# Altium integrated library Molex Modular Jack Right Angle.IntLib: 395 symbols (part 3 of 9)
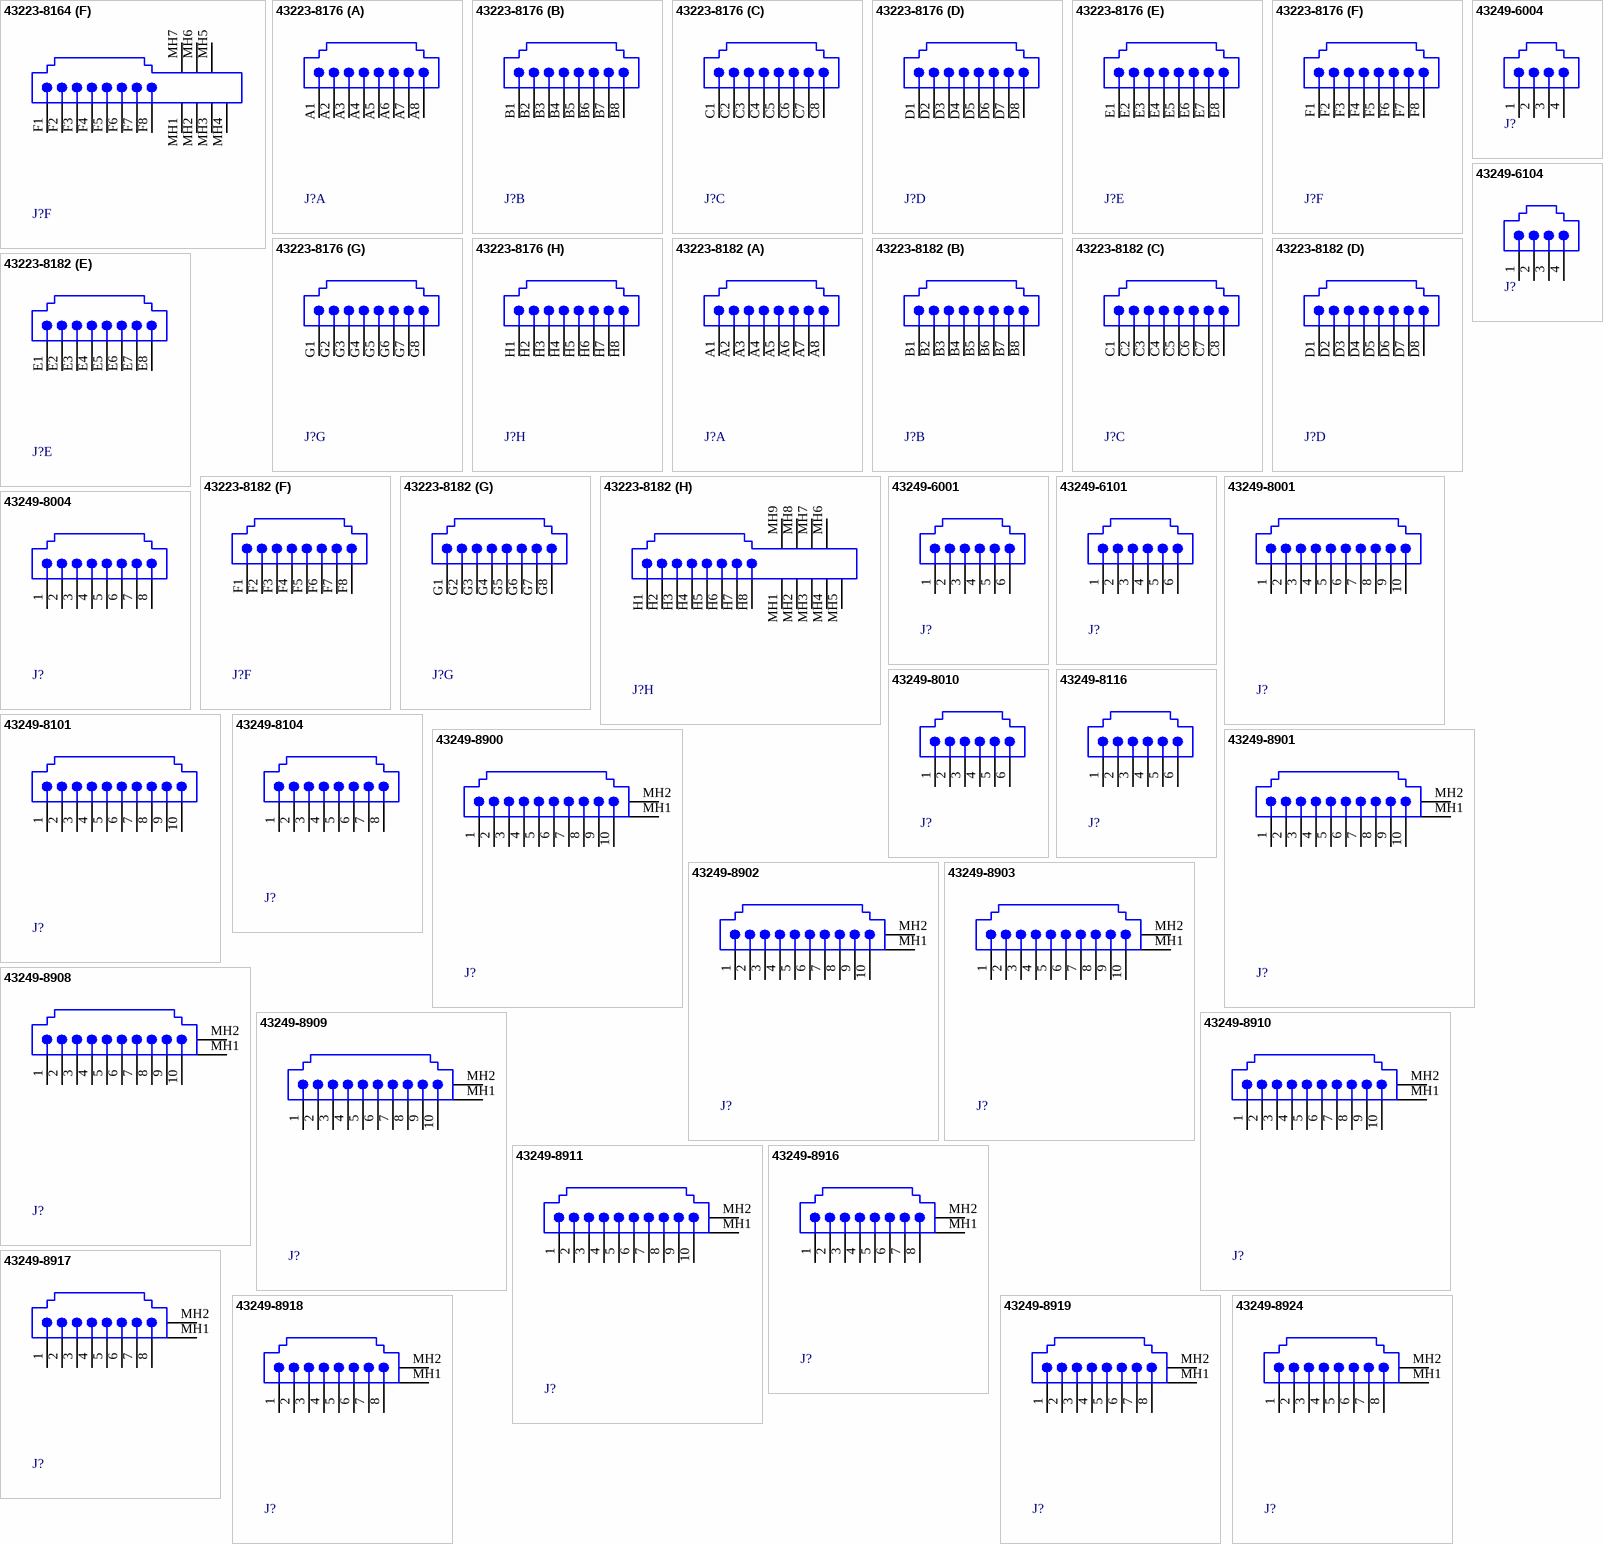
[diagram p26: symbols 43223-8164 to 43249-8924]

## 43249-6001
designator J?
Right Angle, Low Profile, Flush Mount, Unshielded PCB Jack; Ports: 1; Positions/Loaded: Port1 - 6/6; PerformanceCategory: 3/4; PCB_Mounting: Thru-Hole; DrillSize: Nominal, Rounded to nearest 0.05mm; PCB_Layout: Complies with Manufacturer's Recommendation.; Published: 25-Jun-2002; DatasheetDocument: 18-Dec-2001; PackageDocument: 18-Dec-2001; PackageReference: 43249-6001; Publisher: Altium Limited; ComponentLink1Description: Manufacturer Link; ComponentLink1URL: http://www.molex.com/; ComponentLink2Description: Datasheet; ComponentLink2URL: http://www.molex.com/cmc_upload/common_files/1212003_43249catalogpage.pdf
footprint 43249-6001 (Connector; PCB Jack, Thru-Hole; 1-Port, 6 Positions, 6 Loaded; Unshielded without Lightpipes; Right Angle)
signal-integrity model Modular Jack
pins: 1, 2, 3, 4, 5, 6

## 43249-6004
designator J?
Right Angle, Low Profile, Flush Mount, Unshielded PCB Jack; Ports: 1; Positions/Loaded: Port1 - 6/4; PerformanceCategory: 3/4; PCB_Mounting: Thru-Hole; DrillSize: Nominal, Rounded to nearest 0.05mm; PCB_Layout: Complies with Manufacturer's Recommendation.; Published: 25-Jun-2002; DatasheetDocument: 18-Dec-2001; PackageDocument: 18-Dec-2001; PackageReference: 43249-6004; Publisher: Altium Limited; ComponentLink1Description: Manufacturer Link; ComponentLink1URL: http://www.molex.com/; ComponentLink2Description: Datasheet; ComponentLink2URL: http://www.molex.com/cmc_upload/common_files/1212003_43249catalogpage.pdf
footprint 43249-6004 (Connector; PCB Jack, Thru-Hole; 1-Port, 6 Positions, 4 Loaded; Unshielded without Lightpipes; Right Angle)
signal-integrity model Modular Jack
pins: 1, 2, 3, 4

## 43249-6101
designator J?
Right Angle, Low Profile, Flangeless, Unshielded PCB Jack; Ports: 1; Positions/Loaded: Port1 - 6/6; PerformanceCategory: 3/4; PCB_Mounting: Thru-Hole; DrillSize: Nominal, Rounded to nearest 0.05mm; PCB_Layout: Complies with Manufacturer's Recommendation.; Published: 25-Jun-2002; DatasheetDocument: 18-Dec-2001; PackageDocument: 18-Dec-2001; PackageReference: 43249-6101; Publisher: Altium Limited; ComponentLink1Description: Manufacturer Link; ComponentLink1URL: http://www.molex.com/; ComponentLink2Description: Datasheet; ComponentLink2URL: http://www.molex.com/cmc_upload/common_files/1212003_43249catalogpage.pdf
footprint 43249-6101 (Connector; PCB Jack, Thru-Hole; 1-Port, 6 Positions, 6 Loaded; Unshielded without Lightpipes; Right Angle)
signal-integrity model Modular Jack
pins: 1, 2, 3, 4, 5, 6

## 43249-6104
designator J?
Right Angle, Low Profile, Flangeless, Unshielded PCB Jack; Ports: 1; Positions/Loaded: Port1 - 6/4; PerformanceCategory: 3/4; PCB_Mounting: Thru-Hole; DrillSize: Nominal, Rounded to nearest 0.05mm; PCB_Layout: Complies with Manufacturer's Recommendation.; Published: 25-Jun-2002; DatasheetDocument: 18-Dec-2001; PackageDocument: 18-Dec-2001; PackageReference: 43249-6104; Publisher: Altium Limited; ComponentLink1Description: Manufacturer Link; ComponentLink1URL: http://www.molex.com/; ComponentLink2Description: Datasheet; ComponentLink2URL: http://www.molex.com/cmc_upload/common_files/1212003_43249catalogpage.pdf
footprint 43249-6104 (Connector; PCB Jack, Thru-Hole; 1-Port, 6 Positions, 4 Loaded; Unshielded without Lightpipes; Right Angle)
signal-integrity model Modular Jack
pins: 1, 2, 3, 4

## 43249-8001
designator J?
Right Angle, Low Profile, Flush Mount, Unshielded PCB Jack; Ports: 1; Positions/Loaded: Port1 - 8/10; PerformanceCategory: 3/4; PCB_Mounting: Thru-Hole; DrillSize: Nominal, Rounded to nearest 0.05mm; PCB_Layout: Complies with Manufacturer's Recommendation.; Published: 25-Jun-2002; DatasheetDocument: 18-Dec-2001; PackageDocument: 18-Dec-2001; PackageReference: 43249-8001; Publisher: Altium Limited; ComponentLink1Description: Manufacturer Link; ComponentLink1URL: http://www.molex.com/; ComponentLink2Description: Datasheet; ComponentLink2URL: http://www.molex.com/cmc_upload/common_files/1212003_43249catalogpage.pdf
footprint 43249-8001 (Connector; PCB Jack, Thru-Hole; 1-Port, 8 Positions, 10 Loaded; Shielded without Lightpipes; Right Angle)
signal-integrity model Modular Jack
pins: 1, 2, 3, 4, 5, 6, 7, 8, 9, 10

## 43249-8004
designator J?
Right Angle, Low Profile, Flush Mount, Unshielded PCB Jack; Ports: 1; Positions/Loaded: Port1 - 8/8; PerformanceCategory: 3/4; PCB_Mounting: Thru-Hole; DrillSize: Nominal, Rounded to nearest 0.05mm; PCB_Layout: Complies with Manufacturer's Recommendation.; Published: 25-Jun-2002; DatasheetDocument: 18-Dec-2001; PackageDocument: 18-Dec-2001; PackageReference: 43249-8004; Publisher: Altium Limited; ComponentLink1Description: Manufacturer Link; ComponentLink1URL: http://www.molex.com/; ComponentLink2Description: Datasheet; ComponentLink2URL: http://www.molex.com/cmc_upload/common_files/1212003_43249catalogpage.pdf
footprint 43249-8004 (Connector; PCB Jack, Thru-Hole; 1-Port, 8 Positions, 8 Loaded; Unshielded without Lightpipes; Right Angle)
signal-integrity model Modular Jack
pins: 1, 2, 3, 4, 5, 6, 7, 8

## 43249-8010
designator J?
Right Angle, Low Profile, Flush Mount, Unshielded PCB Jack; Ports: 1; Positions/Loaded: Port1 - 8/6; PerformanceCategory: 3/4; PCB_Mounting: Thru-Hole; DrillSize: Nominal, Rounded to nearest 0.05mm; PCB_Layout: Complies with Manufacturer's Recommendation.; Published: 25-Jun-2002; DatasheetDocument: 18-Dec-2001; PackageDocument: 18-Dec-2001; PackageReference: 43249-8010; Publisher: Altium Limited; ComponentLink1Description: Manufacturer Link; ComponentLink1URL: http://www.molex.com/; ComponentLink2Description: Datasheet; ComponentLink2URL: http://www.molex.com/cmc_upload/common_files/1212003_43249catalogpage.pdf
footprint 43249-8010 (Connector; PCB Jack, Thru-Hole; 1-Port, 8 Positions, 6 Loaded; Unshielded without Lightpipes; Right Angle)
signal-integrity model Modular Jack
pins: 1, 2, 3, 4, 5, 6

## 43249-8101
designator J?
Right Angle, Low Profile, Flangeless, Unshielded PCB Jack; Ports: 1; Positions/Loaded: Port1 - 8/10; PerformanceCategory: 3/4; PCB_Mounting: Thru-Hole; DrillSize: Nominal, Rounded to nearest 0.05mm; PCB_Layout: Complies with Manufacturer's Recommendation.; Published: 25-Jun-2002; DatasheetDocument: 18-Dec-2001; PackageDocument: 18-Dec-2001; PackageReference: 43249-8101; Publisher: Altium Limited; ComponentLink1Description: Manufacturer Link; ComponentLink1URL: http://www.molex.com/; ComponentLink2Description: Datasheet; ComponentLink2URL: http://www.molex.com/cmc_upload/common_files/1212003_43249catalogpage.pdf
footprint 43249-8101 (Connector; PCB Jack, Thru-Hole; 1-Port, 8 Positions, 10 Loaded; Shielded without Lightpipes; Right Angle)
signal-integrity model Modular Jack
pins: 1, 2, 3, 4, 5, 6, 7, 8, 9, 10

## 43249-8104
designator J?
Right Angle, Low Profile, Flangeless, Unshielded PCB Jack; Ports: 1; Positions/Loaded: Port1 - 8/8; PerformanceCategory: 3/4; PCB_Mounting: Thru-Hole; DrillSize: Nominal, Rounded to nearest 0.05mm; PCB_Layout: Complies with Manufacturer's Recommendation.; Published: 25-Jun-2002; DatasheetDocument: 18-Dec-2001; PackageDocument: 18-Dec-2001; PackageReference: 43249-8104; Publisher: Altium Limited; ComponentLink1Description: Manufacturer Link; ComponentLink1URL: http://www.molex.com/; ComponentLink2Description: Datasheet; ComponentLink2URL: http://www.molex.com/cmc_upload/common_files/1212003_43249catalogpage.pdf
footprint 43249-8104 (Connector; PCB Jack, Thru-Hole; 1-Port, 8 Positions, 8 Loaded; Unshielded without Lightpipes; Right Angle)
signal-integrity model Modular Jack
pins: 1, 2, 3, 4, 5, 6, 7, 8

## 43249-8116
designator J?
Right Angle, Low Profile, Flangeless, Unshielded PCB Jack; Ports: 1; Positions/Loaded: Port1 - 8/6; PerformanceCategory: 3/4; PCB_Mounting: Thru-Hole; DrillSize: Nominal, Rounded to nearest 0.05mm; PCB_Layout: Complies with Manufacturer's Recommendation.; Published: 25-Jun-2002; DatasheetDocument: 18-Dec-2001; PackageDocument: 18-Dec-2001; PackageReference: 43249-8116; Publisher: Altium Limited; ComponentLink1Description: Manufacturer Link; ComponentLink1URL: http://www.molex.com/; ComponentLink2Description: Datasheet; ComponentLink2URL: http://www.molex.com/cmc_upload/common_files/1212003_43249catalogpage.pdf
footprint 43249-8116 (Connector; PCB Jack, Thru-Hole; 1-Port, 8 Positions, 6 Loaded; Unshielded without Lightpipes; Right Angle)
signal-integrity model Modular Jack
pins: 1, 2, 3, 4, 5, 6

## 43249-8900
designator J?
Right Angle, Low Profile, with no Panel Grounding Tabs, Shielded PCB Jack; Ports: 1; Positions/Loaded: Port1 - 8/10; PerformanceCategory: 3/4; PCB_Mounting: Thru-Hole; DrillSize: Nominal, Rounded to nearest 0.05mm; PCB_Layout: Complies with Manufacturer's Recommendation.; Published: 25-Jun-2002; DatasheetDocument: 18-Dec-2001; PackageDocument: 18-Dec-2001; PackageReference: 43249-8900; Publisher: Altium Limited; ComponentLink1Description: Manufacturer Link; ComponentLink1URL: http://www.molex.com/; ComponentLink2Description: Datasheet; ComponentLink2URL: http://www.molex.com/cmc_upload/common_files/1212003_43249catalogpage.pdf
footprint 43249-8900 (Connector; PCB Jack, Thru-Hole; 1-Port, 8 Positions, 10 Loaded; Shielded without Lightpipes; Right Angle)
signal-integrity model Modular Jack
pins: 1, 2, 3, 4, 5, 6, 7, 8, 9, 10, MH1 Shield, MH2 Shield

## 43249-8901
designator J?
Right Angle, Low Profile, with top Panel Grounding Tabs, Shielded PCB Jack; Ports: 1; Positions/Loaded: Port1 - 8/10; PerformanceCategory: 3/4; PCB_Mounting: Thru-Hole; DrillSize: Nominal, Rounded to nearest 0.05mm; PCB_Layout: Complies with Manufacturer's Recommendation.; Published: 25-Jun-2002; DatasheetDocument: 18-Dec-2001; PackageDocument: 18-Dec-2001; PackageReference: 43249-8901; Publisher: Altium Limited; ComponentLink1Description: Manufacturer Link; ComponentLink1URL: http://www.molex.com/; ComponentLink2Description: Datasheet; ComponentLink2URL: http://www.molex.com/cmc_upload/common_files/1212003_43249catalogpage.pdf
footprint 43249-8901 (Connector; PCB Jack, Thru-Hole; 1-Port, 8 Positions, 10 Loaded; Shielded without Lightpipes; Right Angle)
signal-integrity model Modular Jack
pins: 1, 2, 3, 4, 5, 6, 7, 8, 9, 10, MH1 Shield, MH2 Shield

## 43249-8902
designator J?
Right Angle, Low Profile, with offset Panel Grounding Tabs, Shielded PCB Jack; Ports: 1; Positions/Loaded: Port1 - 8/10; PerformanceCategory: 3/4; PCB_Mounting: Thru-Hole; DrillSize: Nominal, Rounded to nearest 0.05mm; PCB_Layout: Complies with Manufacturer's Recommendation.; Published: 25-Jun-2002; DatasheetDocument: 18-Dec-2001; PackageDocument: 18-Dec-2001; PackageReference: 43249-8902; Publisher: Altium Limited; ComponentLink1Description: Manufacturer Link; ComponentLink1URL: http://www.molex.com/; ComponentLink2Description: Datasheet; ComponentLink2URL: http://www.molex.com/cmc_upload/common_files/1212003_43249catalogpage.pdf
footprint 43249-8902 (Connector; PCB Jack, Thru-Hole; 1-Port, 8 Positions, 10 Loaded; Shielded without Lightpipes; Right Angle)
signal-integrity model Modular Jack
pins: 1, 2, 3, 4, 5, 6, 7, 8, 9, 10, MH1 Shield, MH2 Shield

## 43249-8903
designator J?
Right Angle, Low Profile, with all Panel Grounding Tabs, Shielded PCB Jack; Ports: 1; Positions/Loaded: Port1 - 8/10; PerformanceCategory: 3/4; PCB_Mounting: Thru-Hole; DrillSize: Nominal, Rounded to nearest 0.05mm; PCB_Layout: Complies with Manufacturer's Recommendation.; Published: 25-Jun-2002; DatasheetDocument: 18-Dec-2001; PackageDocument: 18-Dec-2001; PackageReference: 43249-8903; Publisher: Altium Limited; ComponentLink1Description: Manufacturer Link; ComponentLink1URL: http://www.molex.com/; ComponentLink2Description: Datasheet; ComponentLink2URL: http://www.molex.com/cmc_upload/common_files/1212003_43249catalogpage.pdf
footprint 43249-8903 (Connector; PCB Jack, Thru-Hole; 1-Port, 8 Positions, 10 Loaded; Shielded without Lightpipes; Right Angle)
signal-integrity model Modular Jack
pins: 1, 2, 3, 4, 5, 6, 7, 8, 9, 10, MH1 Shield, MH2 Shield

## 43249-8908
designator J?
Right Angle, Low Profile, with no Panel Grounding Tabs, Shielded PCB Jack; Ports: 1; Positions/Loaded: Port1 - 8/10; PerformanceCategory: 3/4; PCB_Mounting: Thru-Hole; DrillSize: Nominal, Rounded to nearest 0.05mm; PCB_Layout: Complies with Manufacturer's Recommendation.; Published: 25-Jun-2002; DatasheetDocument: 18-Dec-2001; PackageDocument: 18-Dec-2001; PackageReference: 43249-8908; Publisher: Altium Limited; ComponentLink1Description: Manufacturer Link; ComponentLink1URL: http://www.molex.com/; ComponentLink2Description: Datasheet; ComponentLink2URL: http://www.molex.com/cmc_upload/common_files/1212003_43249catalogpage.pdf
footprint 43249-8908 (Connector; PCB Jack, Thru-Hole; 1-Port, 8 Positions, 10 Loaded; Shielded without Lightpipes; Right Angle)
signal-integrity model Modular Jack
pins: 1, 2, 3, 4, 5, 6, 7, 8, 9, 10, MH1 Shield, MH2 Shield

## 43249-8909
designator J?
Right Angle, Low Profile, with top Panel Grounding Tabs, Shielded PCB Jack; Ports: 1; Positions/Loaded: Port1 - 8/10; PerformanceCategory: 3/4; PCB_Mounting: Thru-Hole; DrillSize: Nominal, Rounded to nearest 0.05mm; PCB_Layout: Complies with Manufacturer's Recommendation.; Published: 25-Jun-2002; DatasheetDocument: 18-Dec-2001; PackageDocument: 18-Dec-2001; PackageReference: 43249-8909; Publisher: Altium Limited; ComponentLink1Description: Manufacturer Link; ComponentLink1URL: http://www.molex.com/; ComponentLink2Description: Datasheet; ComponentLink2URL: http://www.molex.com/cmc_upload/common_files/1212003_43249catalogpage.pdf
footprint 43249-8909 (Connector; PCB Jack, Thru-Hole; 1-Port, 8 Positions, 10 Loaded; Shielded without Lightpipes; Right Angle)
signal-integrity model Modular Jack
pins: 1, 2, 3, 4, 5, 6, 7, 8, 9, 10, MH1 Shield, MH2 Shield

## 43249-8910
designator J?
Right Angle, Low Profile, with offset Panel Grounding Tabs, Shielded PCB Jack; Ports: 1; Positions/Loaded: Port1 - 8/10; PerformanceCategory: 3/4; PCB_Mounting: Thru-Hole; DrillSize: Nominal, Rounded to nearest 0.05mm; PCB_Layout: Complies with Manufacturer's Recommendation.; Published: 25-Jun-2002; DatasheetDocument: 18-Dec-2001; PackageDocument: 18-Dec-2001; PackageReference: 43249-8910; Publisher: Altium Limited; ComponentLink1Description: Manufacturer Link; ComponentLink1URL: http://www.molex.com/; ComponentLink2Description: Datasheet; ComponentLink2URL: http://www.molex.com/cmc_upload/common_files/1212003_43249catalogpage.pdf
footprint 43249-8910 (Connector; PCB Jack, Thru-Hole; 1-Port, 8 Positions, 10 Loaded; Shielded without Lightpipes; Right Angle)
signal-integrity model Modular Jack
pins: 1, 2, 3, 4, 5, 6, 7, 8, 9, 10, MH1 Shield, MH2 Shield

## 43249-8911
designator J?
Right Angle, Low Profile, with all Panel Grounding Tabs, Shielded PCB Jack; Ports: 1; Positions/Loaded: Port1 - 8/10; PerformanceCategory: 3/4; PCB_Mounting: Thru-Hole; DrillSize: Nominal, Rounded to nearest 0.05mm; PCB_Layout: Complies with Manufacturer's Recommendation.; Published: 25-Jun-2002; DatasheetDocument: 18-Dec-2001; PackageDocument: 18-Dec-2001; PackageReference: 43249-8911; Publisher: Altium Limited; ComponentLink1Description: Manufacturer Link; ComponentLink1URL: http://www.molex.com/; ComponentLink2Description: Datasheet; ComponentLink2URL: http://www.molex.com/cmc_upload/common_files/1212003_43249catalogpage.pdf
footprint 43249-8911 (Connector; PCB Jack, Thru-Hole; 1-Port, 8 Positions, 10 Loaded; Shielded without Lightpipes; Right Angle)
signal-integrity model Modular Jack
pins: 1, 2, 3, 4, 5, 6, 7, 8, 9, 10, MH1 Shield, MH2 Shield

## 43249-8916
designator J?
Right Angle, Low Profile, with no Panel Grounding Tabs, Shielded PCB Jack; Ports: 1; Positions/Loaded: Port1 - 8/8; PerformanceCategory: 3/4; PCB_Mounting: Thru-Hole; DrillSize: Nominal, Rounded to nearest 0.05mm; PCB_Layout: Complies with Manufacturer's Recommendation.; Published: 25-Jun-2002; DatasheetDocument: 18-Dec-2001; PackageDocument: 18-Dec-2001; PackageReference: 43249-8916; Publisher: Altium Limited; ComponentLink1Description: Manufacturer Link; ComponentLink1URL: http://www.molex.com/; ComponentLink2Description: Datasheet; ComponentLink2URL: http://www.molex.com/cmc_upload/common_files/1212003_43249catalogpage.pdf
footprint 43249-8916 (Connector; PCB Jack, Thru-Hole; 1-Port, 8 Positions, 8 Loaded; Shielded without Lightpipes; Right Angle)
signal-integrity model Modular Jack
pins: 1, 2, 3, 4, 5, 6, 7, 8, MH1 Shield, MH2 Shield

## 43249-8917
designator J?
Right Angle, Low Profile, with top Panel Grounding Tabs, Shielded PCB Jack; Ports: 1; Positions/Loaded: Port1 - 8/8; PerformanceCategory: 3/4; PCB_Mounting: Thru-Hole; DrillSize: Nominal, Rounded to nearest 0.05mm; PCB_Layout: Complies with Manufacturer's Recommendation.; Published: 25-Jun-2002; DatasheetDocument: 18-Dec-2001; PackageDocument: 18-Dec-2001; PackageReference: 43249-8917; Publisher: Altium Limited; ComponentLink1Description: Manufacturer Link; ComponentLink1URL: http://www.molex.com/; ComponentLink2Description: Datasheet; ComponentLink2URL: http://www.molex.com/cmc_upload/common_files/1212003_43249catalogpage.pdf
footprint 43249-8917 (Connector; PCB Jack, Thru-Hole; 1-Port, 8 Positions, 8 Loaded; Shielded without Lightpipes; Right Angle)
signal-integrity model Modular Jack
pins: 1, 2, 3, 4, 5, 6, 7, 8, MH1 Shield, MH2 Shield

## 43249-8918
designator J?
Right Angle, Low Profile, with offset Panel Grounding Tabs, Shielded PCB Jack; Ports: 1; Positions/Loaded: Port1 - 8/8; PerformanceCategory: 3/4; PCB_Mounting: Thru-Hole; DrillSize: Nominal, Rounded to nearest 0.05mm; PCB_Layout: Complies with Manufacturer's Recommendation.; Published: 25-Jun-2002; DatasheetDocument: 18-Dec-2001; PackageDocument: 18-Dec-2001; PackageReference: 43249-8918; Publisher: Altium Limited; ComponentLink1Description: Manufacturer Link; ComponentLink1URL: http://www.molex.com/; ComponentLink2Description: Datasheet; ComponentLink2URL: http://www.molex.com/cmc_upload/common_files/1212003_43249catalogpage.pdf
footprint 43249-8918 (Connector; PCB Jack, Thru-Hole; 1-Port, 8 Positions, 8 Loaded; Shielded without Lightpipes; Right Angle)
signal-integrity model Modular Jack
pins: 1, 2, 3, 4, 5, 6, 7, 8, MH1 Shield, MH2 Shield

## 43249-8919
designator J?
Right Angle, Low Profile, with all Panel Grounding Tabs, Shielded PCB Jack; Ports: 1; Positions/Loaded: Port1 - 8/8; PerformanceCategory: 3/4; PCB_Mounting: Thru-Hole; DrillSize: Nominal, Rounded to nearest 0.05mm; PCB_Layout: Complies with Manufacturer's Recommendation.; Published: 25-Jun-2002; DatasheetDocument: 18-Dec-2001; PackageDocument: 18-Dec-2001; PackageReference: 43249-8919; Publisher: Altium Limited; ComponentLink1Description: Manufacturer Link; ComponentLink1URL: http://www.molex.com/; ComponentLink2Description: Datasheet; ComponentLink2URL: http://www.molex.com/cmc_upload/common_files/1212003_43249catalogpage.pdf
footprint 43249-8919 (Connector; PCB Jack, Thru-Hole; 1-Port, 8 Positions, 8 Loaded; Shielded without Lightpipes; Right Angle)
signal-integrity model Modular Jack
pins: 1, 2, 3, 4, 5, 6, 7, 8, MH1 Shield, MH2 Shield

## 43249-8924
designator J?
Right Angle, Low Profile, with no Panel Grounding Tabs, Shielded PCB Jack; Ports: 1; Positions/Loaded: Port1 - 8/8; PerformanceCategory: 3/4; PCB_Mounting: Thru-Hole; DrillSize: Nominal, Rounded to nearest 0.05mm; PCB_Layout: Complies with Manufacturer's Recommendation.; Published: 25-Jun-2002; DatasheetDocument: 18-Dec-2001; PackageDocument: 18-Dec-2001; PackageReference: 43249-8924; Publisher: Altium Limited; ComponentLink1Description: Manufacturer Link; ComponentLink1URL: http://www.molex.com/; ComponentLink2Description: Datasheet; ComponentLink2URL: http://www.molex.com/cmc_upload/common_files/1212003_43249catalogpage.pdf
footprint 43249-8924 (Connector; PCB Jack, Thru-Hole; 1-Port, 8 Positions, 8 Loaded; Shielded without Lightpipes; Right Angle)
signal-integrity model Modular Jack
pins: 1, 2, 3, 4, 5, 6, 7, 8, MH1 Shield, MH2 Shield

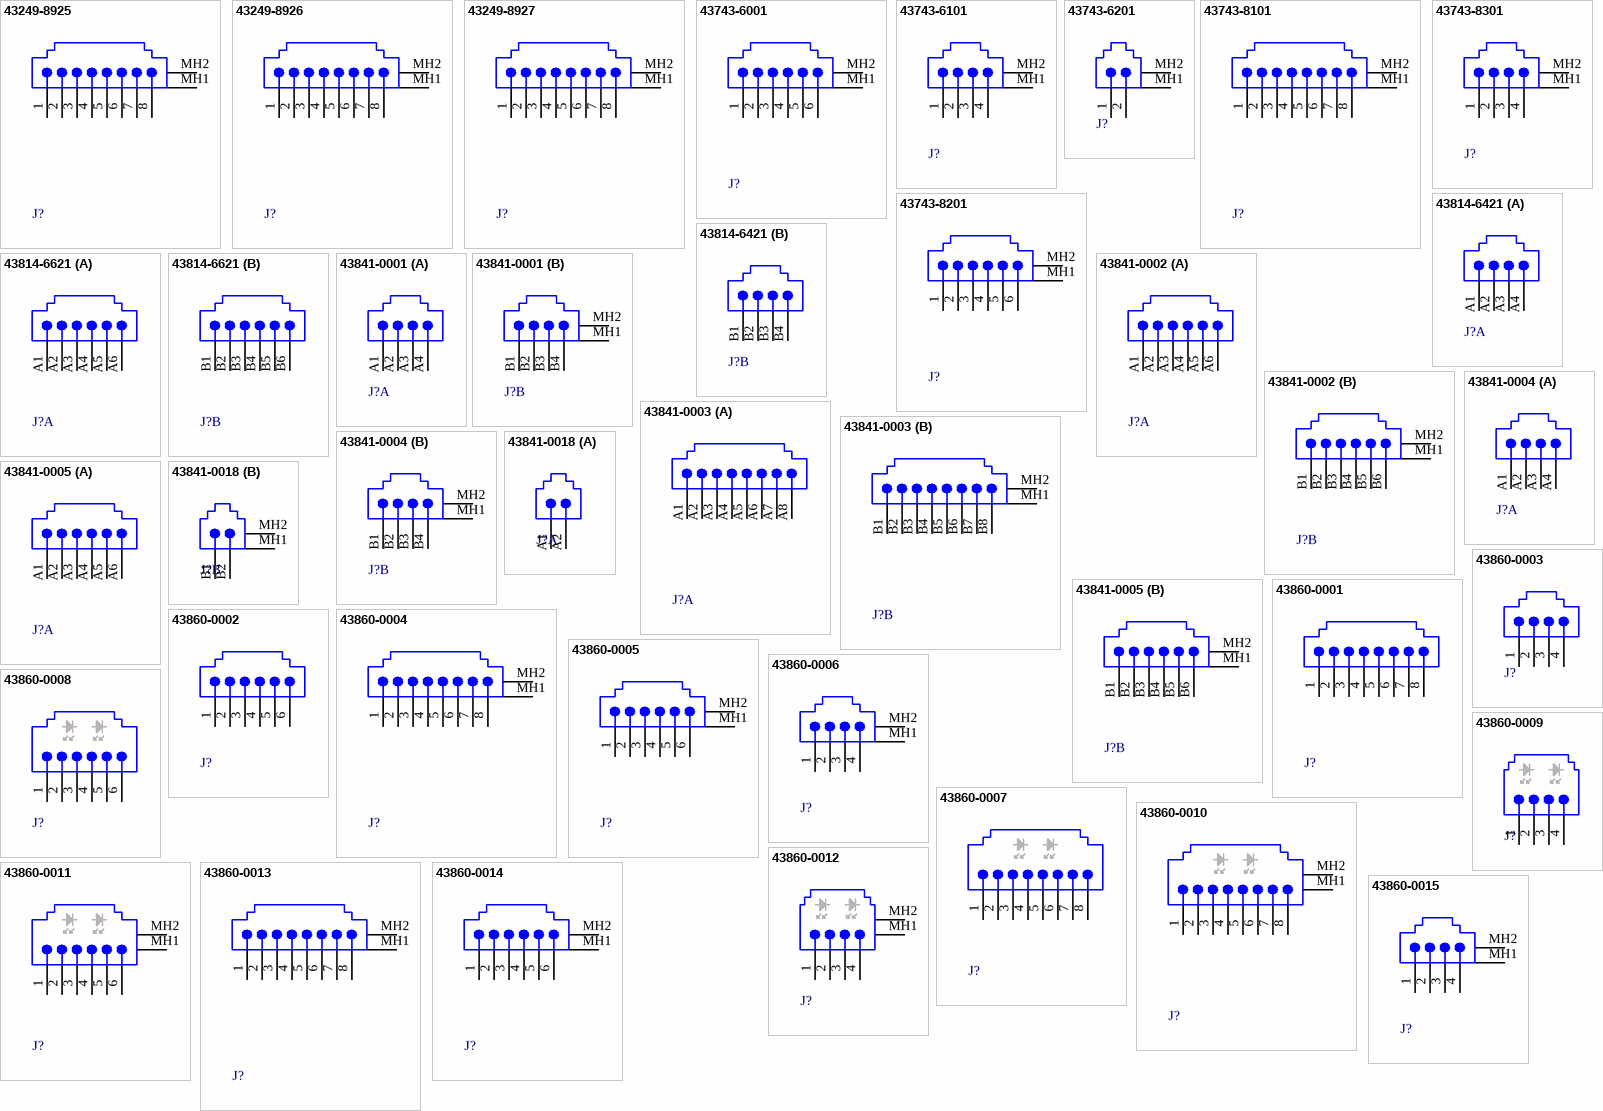
[diagram p6: symbols 43249-8925 to 43860-0015]

## 43249-8925
designator J?
Right Angle, Low Profile, with top Panel Grounding Tabs, Shielded PCB Jack; Ports: 1; Positions/Loaded: Port1 - 8/8; PerformanceCategory: 3/4; PCB_Mounting: Thru-Hole; DrillSize: Nominal, Rounded to nearest 0.05mm; PCB_Layout: Complies with Manufacturer's Recommendation.; Published: 25-Jun-2002; DatasheetDocument: 18-Dec-2001; PackageDocument: 18-Dec-2001; PackageReference: 43249-8925; Publisher: Altium Limited; ComponentLink1Description: Manufacturer Link; ComponentLink1URL: http://www.molex.com/; ComponentLink2Description: Datasheet; ComponentLink2URL: http://www.molex.com/cmc_upload/common_files/1212003_43249catalogpage.pdf
footprint 43249-8925 (Connector; PCB Jack, Thru-Hole; 1-Port, 8 Positions, 8 Loaded; Shielded without Lightpipes; Right Angle)
signal-integrity model Modular Jack
pins: 1, 2, 3, 4, 5, 6, 7, 8, MH1 Shield, MH2 Shield

## 43249-8926
designator J?
Right Angle, Low Profile, with offset Panel Grounding Tabs, Shielded PCB Jack; Ports: 1; Positions/Loaded: Port1 - 8/8; PerformanceCategory: 3/4; PCB_Mounting: Thru-Hole; DrillSize: Nominal, Rounded to nearest 0.05mm; PCB_Layout: Complies with Manufacturer's Recommendation.; Published: 25-Jun-2002; DatasheetDocument: 18-Dec-2001; PackageDocument: 18-Dec-2001; PackageReference: 43249-8926; Publisher: Altium Limited; ComponentLink1Description: Manufacturer Link; ComponentLink1URL: http://www.molex.com/; ComponentLink2Description: Datasheet; ComponentLink2URL: http://www.molex.com/cmc_upload/common_files/1212003_43249catalogpage.pdf
footprint 43249-8926 (Connector; PCB Jack, Thru-Hole; 1-Port, 8 Positions, 8 Loaded; Shielded without Lightpipes; Right Angle)
signal-integrity model Modular Jack
pins: 1, 2, 3, 4, 5, 6, 7, 8, MH1 Shield, MH2 Shield

## 43249-8927
designator J?
Right Angle, Low Profile, with all Panel Grounding Tabs, Shielded PCB Jack; Ports: 1; Positions/Loaded: Port1 - 8/8; PerformanceCategory: 3/4; PCB_Mounting: Thru-Hole; DrillSize: Nominal, Rounded to nearest 0.05mm; PCB_Layout: Complies with Manufacturer's Recommendation.; Published: 25-Jun-2002; DatasheetDocument: 18-Dec-2001; PackageDocument: 18-Dec-2001; PackageReference: 43249-8927; Publisher: Altium Limited; ComponentLink1Description: Manufacturer Link; ComponentLink1URL: http://www.molex.com/; ComponentLink2Description: Datasheet; ComponentLink2URL: http://www.molex.com/cmc_upload/common_files/1212003_43249catalogpage.pdf
footprint 43249-8927 (Connector; PCB Jack, Thru-Hole; 1-Port, 8 Positions, 8 Loaded; Shielded without Lightpipes; Right Angle)
signal-integrity model Modular Jack
pins: 1, 2, 3, 4, 5, 6, 7, 8, MH1 Shield, MH2 Shield

## 43743-6001
designator J?
SMT, Right Angle, Low Profile, with Outboard Fitting Nails PCB Jack; Ports: 1; Positions/Loaded: Port1 - 6/6; PerformanceCategory: 3; DrillSize: Nominal, Rounded to nearest 0.05mm; PCB_Layout: Complies with Manufacturer's Recommendation.; Published: 25-Jun-2002; DatasheetDocument: 19-Dec-2001; PackageDocument: 19-Dec-2001; PackageReference: 43743-6001; Publisher: Altium Limited; PCB_Mounting: SMT; ComponentLink1Description: Manufacturer Link; ComponentLink1URL: http://www.molex.com/; ComponentLink2Description: Datasheet; ComponentLink2URL: http://www.molex.com/cmc_upload/common_files/1222003_43743catalogpage.pdf
footprint 43743-6001 (Connector; PCB Jack, SM; 1-Port, 6 Positions, 6 Loaded; Unshielded without Lightpipes; Right Angle)
signal-integrity model Modular Jack
pins: 1, 2, 3, 4, 5, 6, MH1 Shield, MH2 Shield

## 43743-6101
designator J?
SMT, Right Angle, Low Profile, with Outboard Fitting Nails PCB Jack; Ports: 1; Positions/Loaded: Port1 - 6/4; PerformanceCategory: 3; DrillSize: Nominal, Rounded to nearest 0.05mm; PCB_Layout: Complies with Manufacturer's Recommendation.; Published: 25-Jun-2002; DatasheetDocument: 19-Dec-2001; PackageDocument: 19-Dec-2001; PackageReference: 43743-6101; Publisher: Altium Limited; PCB_Mounting: SMT; ComponentLink1Description: Manufacturer Link; ComponentLink1URL: http://www.molex.com/; ComponentLink2Description: Datasheet; ComponentLink2URL: http://www.molex.com/cmc_upload/common_files/1222003_43743catalogpage.pdf
footprint 43743-6101 (Connector; PCB Jack, SM; 1-Port, 6 Positions, 4 Loaded; Unshielded without Lightpipes; Right Angle)
signal-integrity model Modular Jack
pins: 1, 2, 3, 4, MH1 Shield, MH2 Shield

## 43743-6201
designator J?
SMT, Right Angle, Low Profile, with Outboard Fitting Nails PCB Jack; Ports: 1; Positions/Loaded: Port1 - 6/2; PerformanceCategory: 3; DrillSize: Nominal, Rounded to nearest 0.05mm; PCB_Layout: Complies with Manufacturer's Recommendation.; Published: 25-Jun-2002; DatasheetDocument: 19-Dec-2001; PackageDocument: 19-Dec-2001; PackageReference: 43743-6201; Publisher: Altium Limited; PCB_Mounting: SMT; ComponentLink1Description: Manufacturer Link; ComponentLink1URL: http://www.molex.com/; ComponentLink2Description: Datasheet; ComponentLink2URL: http://www.molex.com/cmc_upload/common_files/1222003_43743catalogpage.pdf
footprint 43743-6201 (Connector; PCB Jack, SM; 1-Port, 6 Positions, 2 Loaded; Unshielded without Lightpipes; Right Angle)
signal-integrity model Modular Jack
pins: 1, 2, MH1 Shield, MH2 Shield

## 43743-8101
designator J?
SMT, Right Angle, Low Profile, with Outboard Fitting Nails PCB Jack; Ports: 1; Positions/Loaded: Port1 - 8/8; PerformanceCategory: 3; DrillSize: Nominal, Rounded to nearest 0.05mm; PCB_Layout: Complies with Manufacturer's Recommendation.; Published: 25-Jun-2002; DatasheetDocument: 19-Dec-2001; PackageDocument: 19-Dec-2001; PackageReference: 43743-8101; Publisher: Altium Limited; PCB_Mounting: SMT; ComponentLink1Description: Manufacturer Link; ComponentLink1URL: http://www.molex.com/; ComponentLink2Description: Datasheet; ComponentLink2URL: http://www.molex.com/cmc_upload/common_files/1222003_43743catalogpage.pdf
footprint 43743-8101 (Connector; PCB Jack, SM; 1-Port, 8 Positions, 8 Loaded; Unshielded without Lightpipes; Right Angle)
signal-integrity model Modular Jack
pins: 1, 2, 3, 4, 5, 6, 7, 8, MH1 Shield, MH2 Shield

## 43743-8201
designator J?
SMT, Right Angle, Low Profile, with Outboard Fitting Nails PCB Jack; Ports: 1; Positions/Loaded: Port1 - 8/6; PerformanceCategory: 3; DrillSize: Nominal, Rounded to nearest 0.05mm; PCB_Layout: Complies with Manufacturer's Recommendation.; Published: 25-Jun-2002; DatasheetDocument: 19-Dec-2001; PackageDocument: 19-Dec-2001; PackageReference: 43743-8201; Publisher: Altium Limited; PCB_Mounting: SMT; ComponentLink1Description: Manufacturer Link; ComponentLink1URL: http://www.molex.com/; ComponentLink2Description: Datasheet; ComponentLink2URL: http://www.molex.com/cmc_upload/common_files/1222003_43743catalogpage.pdf
footprint 43743-8201 (Connector; PCB Jack, SM; 1-Port, 8 Positions, 6 Loaded; Unshielded without Lightpipes; Right Angle)
signal-integrity model Modular Jack
pins: 1, 2, 3, 4, 5, 6, MH1 Shield, MH2 Shield

## 43743-8301
designator J?
SMT, Right Angle, Low Profile, with Outboard Fitting Nails PCB Jack; Ports: 1; Positions/Loaded: Port1 - 8/4; PerformanceCategory: 3; DrillSize: Nominal, Rounded to nearest 0.05mm; PCB_Layout: Complies with Manufacturer's Recommendation.; Published: 25-Jun-2002; DatasheetDocument: 19-Dec-2001; PackageDocument: 19-Dec-2001; PackageReference: 43743-8301; Publisher: Altium Limited; PCB_Mounting: SMT; ComponentLink1Description: Manufacturer Link; ComponentLink1URL: http://www.molex.com/; ComponentLink2Description: Datasheet; ComponentLink2URL: http://www.molex.com/cmc_upload/common_files/1222003_43743catalogpage.pdf
footprint 43743-8301 (Connector; PCB Jack, SM; 1-Port, 8 Positions, 4 Loaded; Unshielded without Lightpipes; Right Angle)
signal-integrity model Modular Jack
pins: 1, 2, 3, 4, MH1 Shield, MH2 Shield

## 43814-6421
designator J?
Right Angle, Low Profile, Inverted, Dual Port PCB Jack; Ports: 2; Positions/Loaded: All Ports - 6/4; PerformanceCategory: 3; PCB_Mounting: Thru-Hole; DrillSize: Nominal, Rounded to nearest 0.05mm; PCB_Layout: Complies with Manufacturer's Recommendation.; Published: 25-Jun-2002; DatasheetDocument: 18-Dec-2001; PackageDocument: 18-Dec-2001; PackageReference: 43814-6421; Publisher: Altium Limited; ComponentLink1Description: Manufacturer Link; ComponentLink1URL: http://www.molex.com/; ComponentLink2Description: Datasheet; ComponentLink2URL: http://www.molex.com/cmc_upload/common_files/1222003_43814catalogpage.pdf
footprint 43814-6421 (Connector; PCB Jack, Thru-Hole; 2-Port, 6 Positions, 4 Loaded; Unshielded without Lightpipes; Right Angle)
signal-integrity model Modular Jack
part A pins: A1, A2, A3, A4
part B pins: B1, B2, B3, B4

## 43814-6621
designator J?
Right Angle, Low Profile, Inverted, Dual Port PCB Jack; Ports: 2; Positions/Loaded: All Ports - 6/6; PerformanceCategory: 3; PCB_Mounting: Thru-Hole; DrillSize: Nominal, Rounded to nearest 0.05mm; PCB_Layout: Complies with Manufacturer's Recommendation.; Published: 25-Jun-2002; DatasheetDocument: 18-Dec-2001; PackageDocument: 18-Dec-2001; PackageReference: 43814-6621; Publisher: Altium Limited; ComponentLink1Description: Manufacturer Link; ComponentLink1URL: http://www.molex.com/; ComponentLink2Description: Datasheet; ComponentLink2URL: http://www.molex.com/cmc_upload/common_files/1222003_43814catalogpage.pdf
footprint 43814-6621 (Connector; PCB Jack, Thru-Hole; 2-Port, 6 Positions, 6 Loaded; Unshielded without Lightpipes; Right Angle)
signal-integrity model Modular Jack
part A pins: A1, A2, A3, A4, A5, A6
part B pins: B1, B2, B3, B4, B5, B6

## 43841-0001
designator J?
SMT, Right Angle, Low Profile, Dual Port Modular Jack with Outboard Fitting Nails; Ports: 2; Positions/Loaded: All Ports - 8/4; PerformanceCategory: 3/4; DrillSize: Nominal, Rounded to nearest 0.05mm; PCB_Layout: Complies with Manufacturer's Recommendation.; Published: 25-Jun-2002; DatasheetDocument: 19-Dec-2001; PackageDocument: 19-Dec-2001; PackageReference: 43841-0001; Publisher: Altium Limited; PCB_Mounting: SMT; ComponentLink1Description: Manufacturer Link; ComponentLink1URL: http://www.molex.com/; ComponentLink2Description: Datasheet; ComponentLink2URL: http://www.molex.com/cmc_upload/common_files/1222003_mx43841.pdf
footprint 43841-0001 (Connector; PCB Jack, SM; 2-Port, 8 Positions, 4 Loaded; Unshielded without Lightpipes; Right Angle)
signal-integrity model Modular Jack
part A pins: A1, A2, A3, A4
part B pins: B1, B2, B3, B4, MH1 Shield, MH2 Shield

## 43841-0002
designator J?
SMT, Right Angle, Low Profile, Dual Port Modular Jack with Outboard Fitting Nails; Ports: 2; Positions/Loaded: All Ports - 8/6; PerformanceCategory: 3/4; DrillSize: Nominal, Rounded to nearest 0.05mm; PCB_Layout: Complies with Manufacturer's Recommendation.; Published: 25-Jun-2002; DatasheetDocument: 19-Dec-2001; PackageDocument: 19-Dec-2001; PackageReference: 43841-0002; Publisher: Altium Limited; PCB_Mounting: SMT; ComponentLink1Description: Manufacturer Link; ComponentLink1URL: http://www.molex.com/; ComponentLink2Description: Datasheet; ComponentLink2URL: http://www.molex.com/cmc_upload/common_files/1222003_mx43841.pdf
footprint 43841-0002 (Connector; PCB Jack, SM; 2-Port, 8 Positions, 6 Loaded; Unshielded without Lightpipes; Right Angle)
signal-integrity model Modular Jack
part A pins: A1, A2, A3, A4, A5, A6
part B pins: B1, B2, B3, B4, B5, B6, MH1 Shield, MH2 Shield

## 43841-0003
designator J?
SMT, Right Angle, Low Profile, Dual Port Modular Jack with Outboard Fitting Nails; Ports: 2; Positions/Loaded: All Ports - 8/8; PerformanceCategory: 3/4; DrillSize: Nominal, Rounded to nearest 0.05mm; PCB_Layout: Complies with Manufacturer's Recommendation.; Published: 25-Jun-2002; DatasheetDocument: 19-Dec-2001; PackageDocument: 19-Dec-2001; PackageReference: 43841-0003; Publisher: Altium Limited; PCB_Mounting: SMT; ComponentLink1Description: Manufacturer Link; ComponentLink1URL: http://www.molex.com/; ComponentLink2Description: Datasheet; ComponentLink2URL: http://www.molex.com/cmc_upload/common_files/1222003_mx43841.pdf
footprint 43841-0003 (Connector; PCB Jack, SM; 2-Port, 8 Positions, 8 Loaded; Unshielded without Lightpipes; Right Angle)
signal-integrity model Modular Jack
part A pins: A1, A2, A3, A4, A5, A6, A7, A8
part B pins: B1, B2, B3, B4, B5, B6, B7, B8, MH1 Shield, MH2 Shield

## 43841-0004
designator J?
SMT, Right Angle, Low Profile, Dual Port Modular Jack with Outboard Fitting Nails; Ports: 2; Positions/Loaded: All Ports - 6/4; PerformanceCategory: 3/4; DrillSize: Nominal, Rounded to nearest 0.05mm; PCB_Layout: Complies with Manufacturer's Recommendation.; Published: 25-Jun-2002; DatasheetDocument: 19-Dec-2001; PackageDocument: 19-Dec-2001; PackageReference: 43841-0004; Publisher: Altium Limited; PCB_Mounting: SMT; ComponentLink1Description: Manufacturer Link; ComponentLink1URL: http://www.molex.com/; ComponentLink2Description: Datasheet; ComponentLink2URL: http://www.molex.com/cmc_upload/common_files/1222003_mx43841.pdf
footprint 43841-0004 (Connector; PCB Jack, SM; 2-Port, 6 Positions, 4 Loaded; Unshielded without Lightpipes; Right Angle)
signal-integrity model Modular Jack
part A pins: A1, A2, A3, A4
part B pins: B1, B2, B3, B4, MH1 Shield, MH2 Shield

## 43841-0005
designator J?
SMT, Right Angle, Low Profile, Dual Port Modular Jack with Outboard Fitting Nails; Ports: 2; Positions/Loaded: All Ports - 6/6; PerformanceCategory: 3/4; DrillSize: Nominal, Rounded to nearest 0.05mm; PCB_Layout: Complies with Manufacturer's Recommendation.; Published: 25-Jun-2002; DatasheetDocument: 19-Dec-2001; PackageDocument: 19-Dec-2001; PackageReference: 43841-0005; Publisher: Altium Limited; PCB_Mounting: SMT; ComponentLink1Description: Manufacturer Link; ComponentLink1URL: http://www.molex.com/; ComponentLink2Description: Datasheet; ComponentLink2URL: http://www.molex.com/cmc_upload/common_files/1222003_mx43841.pdf
footprint 43841-0005 (Connector; PCB Jack, SM; 2-Port, 6 Positions, 6 Loaded; Unshielded without Lightpipes; Right Angle)
signal-integrity model Modular Jack
part A pins: A1, A2, A3, A4, A5, A6
part B pins: B1, B2, B3, B4, B5, B6, MH1 Shield, MH2 Shield

## 43841-0018
designator J?
SMT, Right Angle, Low Profile, Dual Port Modular Jack with Outboard Fitting Nails; Ports: 2; Positions/Loaded: All Ports - 6/2; PerformanceCategory: 3/4; DrillSize: Nominal, Rounded to nearest 0.05mm; PCB_Layout: Complies with Manufacturer's Recommendation.; Published: 25-Jun-2002; DatasheetDocument: 19-Dec-2001; PackageDocument: 19-Dec-2001; PackageReference: 43841-0018; Publisher: Altium Limited; PCB_Mounting: SMT; ComponentLink1Description: Manufacturer Link; ComponentLink1URL: http://www.molex.com/; ComponentLink2Description: Datasheet; ComponentLink2URL: http://www.molex.com/cmc_upload/common_files/1222003_mx43841.pdf
footprint 43841-0018 (Connector; PCB Jack, SM; 2-Port, 6 Positions, 2 Loaded; Unshielded without Lightpipes; Right Angle)
signal-integrity model Modular Jack
part A pins: A1, A2
part B pins: B1, B2, MH1 Shield, MH2 Shield

## 43860-0001
designator J?
Right Angle, Low Profile, Inverted, Unshielded PCB Jack; Ports: 1; Positions/Loaded: Port1 - 8/8; PerformanceCategory: 3; PCB_Mounting: Thru-Hole; DrillSize: Nominal, Rounded to nearest 0.05mm; PCB_Layout: Complies with Manufacturer's Recommendation.; Published: 25-Jun-2002; DatasheetDocument: 18-Dec-2001; PackageDocument: 18-Dec-2001; PackageReference: 43860-0001; Publisher: Altium Limited; ComponentLink1Description: Manufacturer Link; ComponentLink1URL: http://www.molex.com/; ComponentLink2Description: Datasheet; ComponentLink2URL: http://www.molex.com/cmc_upload/common_files/1222003_mx43860a.pdf
footprint 43860-0001 (Connector; PCB Jack, Thru-Hole; 1-Port, 8 Positions, 8 Loaded; Unshielded without Lightpipes; Right Angle)
signal-integrity model Modular Jack
pins: 1, 2, 3, 4, 5, 6, 7, 8

## 43860-0002
designator J?
Right Angle, Low Profile, Inverted, Unshielded PCB Jack; Ports: 1; Positions/Loaded: Port1 - 6/6; PerformanceCategory: 3; PCB_Mounting: Thru-Hole; DrillSize: Nominal, Rounded to nearest 0.05mm; PCB_Layout: Complies with Manufacturer's Recommendation.; Published: 25-Jun-2002; DatasheetDocument: 18-Dec-2001; PackageDocument: 18-Dec-2001; PackageReference: 43860-0002; Publisher: Altium Limited; ComponentLink1Description: Manufacturer Link; ComponentLink1URL: http://www.molex.com/; ComponentLink2Description: Datasheet; ComponentLink2URL: http://www.molex.com/cmc_upload/common_files/1222003_mx43860a.pdf
footprint 43860-0002 (Connector; PCB Jack, Thru-Hole; 1-Port, 6 Positions, 6 Loaded; Unshielded without Lightpipes; Right Angle)
signal-integrity model Modular Jack
pins: 1, 2, 3, 4, 5, 6

## 43860-0003
designator J?
Right Angle, Low Profile, Inverted, Unshielded PCB Jack; Ports: 1; Positions/Loaded: Port1 - 6/4; PerformanceCategory: 3; PCB_Mounting: Thru-Hole; DrillSize: Nominal, Rounded to nearest 0.05mm; PCB_Layout: Complies with Manufacturer's Recommendation.; Published: 25-Jun-2002; DatasheetDocument: 18-Dec-2001; PackageDocument: 18-Dec-2001; PackageReference: 43860-0003; Publisher: Altium Limited; ComponentLink1Description: Manufacturer Link; ComponentLink1URL: http://www.molex.com/; ComponentLink2Description: Datasheet; ComponentLink2URL: http://www.molex.com/cmc_upload/common_files/1222003_mx43860a.pdf
footprint 43860-0003 (Connector; PCB Jack, Thru-Hole; 1-Port, 6 Positions, 4 Loaded; Unshielded without Lightpipes; Right Angle)
signal-integrity model Modular Jack
pins: 1, 2, 3, 4

## 43860-0004
designator J?
Right Angle, Low Profile, Inverted, with offset Panel Grounding Tabs, Shielded PCB Jack; Ports: 1; Positions/Loaded: Port1 - 8/8; PerformanceCategory: 3; PCB_Mounting: Thru-Hole; DrillSize: Nominal, Rounded to nearest 0.05mm; PCB_Layout: Complies with Manufacturer's Recommendation.; Published: 25-Jun-2002; DatasheetDocument: 18-Dec-2001; PackageDocument: 18-Dec-2001; PackageReference: 43860-0004; Publisher: Altium Limited; ComponentLink1Description: Manufacturer Link; ComponentLink1URL: http://www.molex.com/; ComponentLink2Description: Datasheet; ComponentLink2URL: http://www.molex.com/cmc_upload/common_files/1222003_mx43860a.pdf
footprint 43860-0004 (Connector; PCB Jack, Thru-Hole; 1-Port, 8 Positions, 8 Loaded; Shielded without Lightpipes; Right Angle)
signal-integrity model Modular Jack
pins: 1, 2, 3, 4, 5, 6, 7, 8, MH1 Shield, MH2 Shield

## 43860-0005
designator J?
Right Angle, Low Profile, Inverted, with offset Panel Grounding Tabs, Shielded PCB Jack; Ports: 1; Positions/Loaded: Port1 - 6/6; PerformanceCategory: 3; PCB_Mounting: Thru-Hole; DrillSize: Nominal, Rounded to nearest 0.05mm; PCB_Layout: Complies with Manufacturer's Recommendation.; Published: 25-Jun-2002; DatasheetDocument: 18-Dec-2001; PackageDocument: 18-Dec-2001; PackageReference: 43860-0005; Publisher: Altium Limited; ComponentLink1Description: Manufacturer Link; ComponentLink1URL: http://www.molex.com/; ComponentLink2Description: Datasheet; ComponentLink2URL: http://www.molex.com/cmc_upload/common_files/1222003_mx43860a.pdf
footprint 43860-0005 (Connector; PCB Jack, Thru-Hole; 1-Port, 6 Positions, 6 Loaded; Shielded without Lightpipes; Right Angle)
signal-integrity model Modular Jack
pins: 1, 2, 3, 4, 5, 6, MH1 Shield, MH2 Shield

## 43860-0006
designator J?
Right Angle, Low Profile, Inverted, with offset Panel Grounding Tabs, Shielded PCB Jack; Ports: 1; Positions/Loaded: Port1 - 6/4; PerformanceCategory: 3; PCB_Mounting: Thru-Hole; DrillSize: Nominal, Rounded to nearest 0.05mm; PCB_Layout: Complies with Manufacturer's Recommendation.; Published: 25-Jun-2002; DatasheetDocument: 18-Dec-2001; PackageDocument: 18-Dec-2001; PackageReference: 43860-0006; Publisher: Altium Limited; ComponentLink1Description: Manufacturer Link; ComponentLink1URL: http://www.molex.com/; ComponentLink2Description: Datasheet; ComponentLink2URL: http://www.molex.com/cmc_upload/common_files/1222003_mx43860a.pdf
footprint 43860-0006 (Connector; PCB Jack, Thru-Hole; 1-Port, 6 Positions, 4 Loaded; Shielded without Lightpipes; Right Angle)
signal-integrity model Modular Jack
pins: 1, 2, 3, 4, MH1 Shield, MH2 Shield

## 43860-0007
designator J?
Right Angle, Low Profile, Inverted Unshielded Version Modular Jack with Lightpipes; ManufacturerRecommends: LED Package type 0805 or 0603; Ports: 1; Positions/Loaded: Port1 - 8/8; PerformanceCategory: 3; PCB_Mounting: Thru-Hole; PCB_Layout: Shows Position of Manufacturer's Recommended SMT LED, Package Type 0805 shown on Mechanical Layer 1.; DrillSize: Nominal, Rounded to nearest 0.05mm; PCB_Layout: Complies with Manufacturer's Recommendation.; Published: 25-Jun-2002; DatasheetDocument: 17-Dec-2001; PackageDocument: 17-Dec-2001; PackageReference: 43860-0007; Publisher: Altium Limited; ComponentLink1Description: Manufacturer Link; ComponentLink1URL: http://www.molex.com/; ComponentLink2Description: Datasheet; ComponentLink2URL: http://www.molex.com/cmc_upload/common_files/1222003_mx43860b.pdf
footprint 43860-0007 (Connector; PCB Jack, Thru-Hole; 1-Port, 8 Positions, 8 Loaded; Unshielded with Lightpipes; Right Angle)
signal-integrity model Modular Jack
pins: 1, 2, 3, 4, 5, 6, 7, 8

## 43860-0008
designator J?
Right Angle, Low Profile, Inverted Unshielded Version Modular Jack with Lightpipes; ManufacturerRecommends: LED Package type 0805 or 0603; Ports: 1; Positions/Loaded: Port1 - 6/6; PerformanceCategory: 3; PCB_Mounting: Thru-Hole; PCB_Layout: Shows Position of Manufacturer's Recommended SMT LED, Package Type 0805 shown on Mechanical Layer 1.; DrillSize: Nominal, Rounded to nearest 0.05mm; PCB_Layout: Complies with Manufacturer's Recommendation.; Published: 25-Jun-2002; DatasheetDocument: 17-Dec-2001; PackageDocument: 17-Dec-2001; PackageReference: 43860-0008; Publisher: Altium Limited; ComponentLink1Description: Manufacturer Link; ComponentLink1URL: http://www.molex.com/; ComponentLink2Description: Datasheet; ComponentLink2URL: http://www.molex.com/cmc_upload/common_files/1222003_mx43860b.pdf
footprint 43860-0008 (Connector; PCB Jack, Thru-Hole; 1-Port, 6 Positions, 6 Loaded; Unshielded with Lightpipes; Right Angle)
signal-integrity model Modular Jack
pins: 1, 2, 3, 4, 5, 6

## 43860-0009
designator J?
Right Angle, Low Profile, Inverted Unshielded Version Modular Jack with Lightpipes; ManufacturerRecommends: LED Package type 0805 or 0603; Ports: 1; Positions/Loaded: Port1 - 6/4; PerformanceCategory: 3; PCB_Mounting: Thru-Hole; PCB_Layout: Shows Position of Manufacturer's Recommended SMT LED, Package Type 0805 shown on Mechanical Layer 1.; DrillSize: Nominal, Rounded to nearest 0.05mm; PCB_Layout: Complies with Manufacturer's Recommendation.; Published: 25-Jun-2002; DatasheetDocument: 17-Dec-2001; PackageDocument: 17-Dec-2001; PackageReference: 43860-0009; Publisher: Altium Limited; ComponentLink1Description: Manufacturer Link; ComponentLink1URL: http://www.molex.com/; ComponentLink2Description: Datasheet; ComponentLink2URL: http://www.molex.com/cmc_upload/common_files/1222003_mx43860b.pdf
footprint 43860-0009 (Connector; PCB Jack, Thru-Hole; 1-Port, 6 Positions, 4 Loaded; Unshielded with Lightpipes; Right Angle)
signal-integrity model Modular Jack
pins: 1, 2, 3, 4

## 43860-0010
designator J?
Right Angle, Low Profile, with all Panel Grounding Tabs, Inverted Shielded Version Modular Jack with Lightpipes; ManufacturerRecommends: LED Package type 0805 or 0603; Ports: 1; Positions/Loaded: Port1 - 8/8; PerformanceCategory: 3; PCB_Mounting: Thru-Hole; PCB_Layout: Shows Position of Manufacturer's Recommended SMT LED, Package Type 0805 shown on Mechanical Layer 1.; DrillSize: Nominal, Rounded to nearest 0.05mm; PCB_Layout: Complies with Manufacturer's Recommendation.; Published: 25-Jun-2002; DatasheetDocument: 17-Dec-2001; PackageDocument: 17-Dec-2001; PackageReference: 43860-0010; Publisher: Altium Limited; ComponentLink1Description: Manufacturer Link; ComponentLink1URL: http://www.molex.com/; ComponentLink2Description: Datasheet; ComponentLink2URL: http://www.molex.com/cmc_upload/common_files/1222003_mx43860b.pdf
footprint 43860-0010 (Connector; PCB Jack, Thru-Hole; 1-Port, 8 Positions, 8 Loaded; Shielded with Lightpipes; Right Angle)
signal-integrity model Modular Jack
pins: 1, 2, 3, 4, 5, 6, 7, 8, MH1 Shield, MH2 Shield

## 43860-0011
designator J?
Right Angle, Low Profile, with all Panel Grounding Tabs, Inverted Shielded Version Modular Jack with Lightpipes; ManufacturerRecommends: LED Package type 0805 or 0603; Ports: 1; Positions/Loaded: Port1 - 6/6; PerformanceCategory: 3; PCB_Mounting: Thru-Hole; PCB_Layout: Shows Position of Manufacturer's Recommended SMT LED, Package Type 0805 shown on Mechanical Layer 1.; DrillSize: Nominal, Rounded to nearest 0.05mm; PCB_Layout: Complies with Manufacturer's Recommendation.; Published: 25-Jun-2002; DatasheetDocument: 17-Dec-2001; PackageDocument: 17-Dec-2001; PackageReference: 43860-0011; Publisher: Altium Limited; ComponentLink1Description: Manufacturer Link; ComponentLink1URL: http://www.molex.com/; ComponentLink2Description: Datasheet; ComponentLink2URL: http://www.molex.com/cmc_upload/common_files/1222003_mx43860b.pdf
footprint 43860-0011 (Connector; PCB Jack, Thru-Hole; 1-Port, 6 Positions, 6 Loaded; Shielded with Lightpipes; Right Angle)
signal-integrity model Modular Jack
pins: 1, 2, 3, 4, 5, 6, MH1 Shield, MH2 Shield

## 43860-0012
designator J?
Right Angle, Low Profile, with all Panel Grounding Tabs, Inverted Shielded Version Modular Jack with Lightpipes; ManufacturerRecommends: LED Package type 0805 or 0603; Ports: 1; Positions/Loaded: Port1 - 6/4; PerformanceCategory: 3; PCB_Mounting: Thru-Hole; PCB_Layout: Shows Position of Manufacturer's Recommended SMT LED, Package Type 0805 shown on Mechanical Layer 1.; DrillSize: Nominal, Rounded to nearest 0.05mm; PCB_Layout: Complies with Manufacturer's Recommendation.; Published: 25-Jun-2002; DatasheetDocument: 17-Dec-2001; PackageDocument: 17-Dec-2001; PackageReference: 43860-0012; Publisher: Altium Limited; ComponentLink1Description: Manufacturer Link; ComponentLink1URL: http://www.molex.com/; ComponentLink2Description: Datasheet; ComponentLink2URL: http://www.molex.com/cmc_upload/common_files/1222003_mx43860b.pdf
footprint 43860-0012 (Connector; PCB Jack, Thru-Hole; 1-Port, 6 Positions, 4 Loaded; Shielded with Lightpipes; Right Angle)
signal-integrity model Modular Jack
pins: 1, 2, 3, 4, MH1 Shield, MH2 Shield

## 43860-0013
designator J?
Right Angle, Low Profile, Inverted, with all Panel Grounding Tabs, Shielded PCB Jack; Ports: 1; Positions/Loaded: Port1 - 8/8; PerformanceCategory: 3; PCB_Mounting: Thru-Hole; DrillSize: Nominal, Rounded to nearest 0.05mm; PCB_Layout: Complies with Manufacturer's Recommendation.; Published: 25-Jun-2002; DatasheetDocument: 18-Dec-2001; PackageDocument: 18-Dec-2001; PackageReference: 43860-0013; Publisher: Altium Limited; ComponentLink1Description: Manufacturer Link; ComponentLink1URL: http://www.molex.com/; ComponentLink2Description: Datasheet; ComponentLink2URL: http://www.molex.com/cmc_upload/common_files/1222003_mx43860a.pdf
footprint 43860-0013 (Connector; PCB Jack, Thru-Hole; 1-Port, 8 Positions, 8 Loaded; Shielded without Lightpipes; Right Angle)
signal-integrity model Modular Jack
pins: 1, 2, 3, 4, 5, 6, 7, 8, MH1 Shield, MH2 Shield

## 43860-0014
designator J?
Right Angle, Low Profile, Inverted, with all Panel Grounding Tabs, Shielded PCB Jack; Ports: 1; Positions/Loaded: Port1 - 6/6; PerformanceCategory: 3; PCB_Mounting: Thru-Hole; DrillSize: Nominal, Rounded to nearest 0.05mm; PCB_Layout: Complies with Manufacturer's Recommendation.; Published: 25-Jun-2002; DatasheetDocument: 18-Dec-2001; PackageDocument: 18-Dec-2001; PackageReference: 43860-0014; Publisher: Altium Limited; ComponentLink1Description: Manufacturer Link; ComponentLink1URL: http://www.molex.com/; ComponentLink2Description: Datasheet; ComponentLink2URL: http://www.molex.com/cmc_upload/common_files/1222003_mx43860a.pdf
footprint 43860-0014 (Connector; PCB Jack, Thru-Hole; 1-Port, 6 Positions, 6 Loaded; Shielded without Lightpipes; Right Angle)
signal-integrity model Modular Jack
pins: 1, 2, 3, 4, 5, 6, MH1 Shield, MH2 Shield

## 43860-0015
designator J?
Right Angle, Low Profile, Inverted, with all Panel Grounding Tabs, Shielded PCB Jack; Ports: 1; Positions/Loaded: Port1 - 6/4; PerformanceCategory: 3; PCB_Mounting: Thru-Hole; DrillSize: Nominal, Rounded to nearest 0.05mm; PCB_Layout: Complies with Manufacturer's Recommendation.; Published: 25-Jun-2002; DatasheetDocument: 18-Dec-2001; PackageDocument: 18-Dec-2001; PackageReference: 43860-0015; Publisher: Altium Limited; ComponentLink1Description: Manufacturer Link; ComponentLink1URL: http://www.molex.com/; ComponentLink2Description: Datasheet; ComponentLink2URL: http://www.molex.com/cmc_upload/common_files/1222003_mx43860a.pdf
footprint 43860-0015 (Connector; PCB Jack, Thru-Hole; 1-Port, 6 Positions, 4 Loaded; Shielded without Lightpipes; Right Angle)
signal-integrity model Modular Jack
pins: 1, 2, 3, 4, MH1 Shield, MH2 Shield

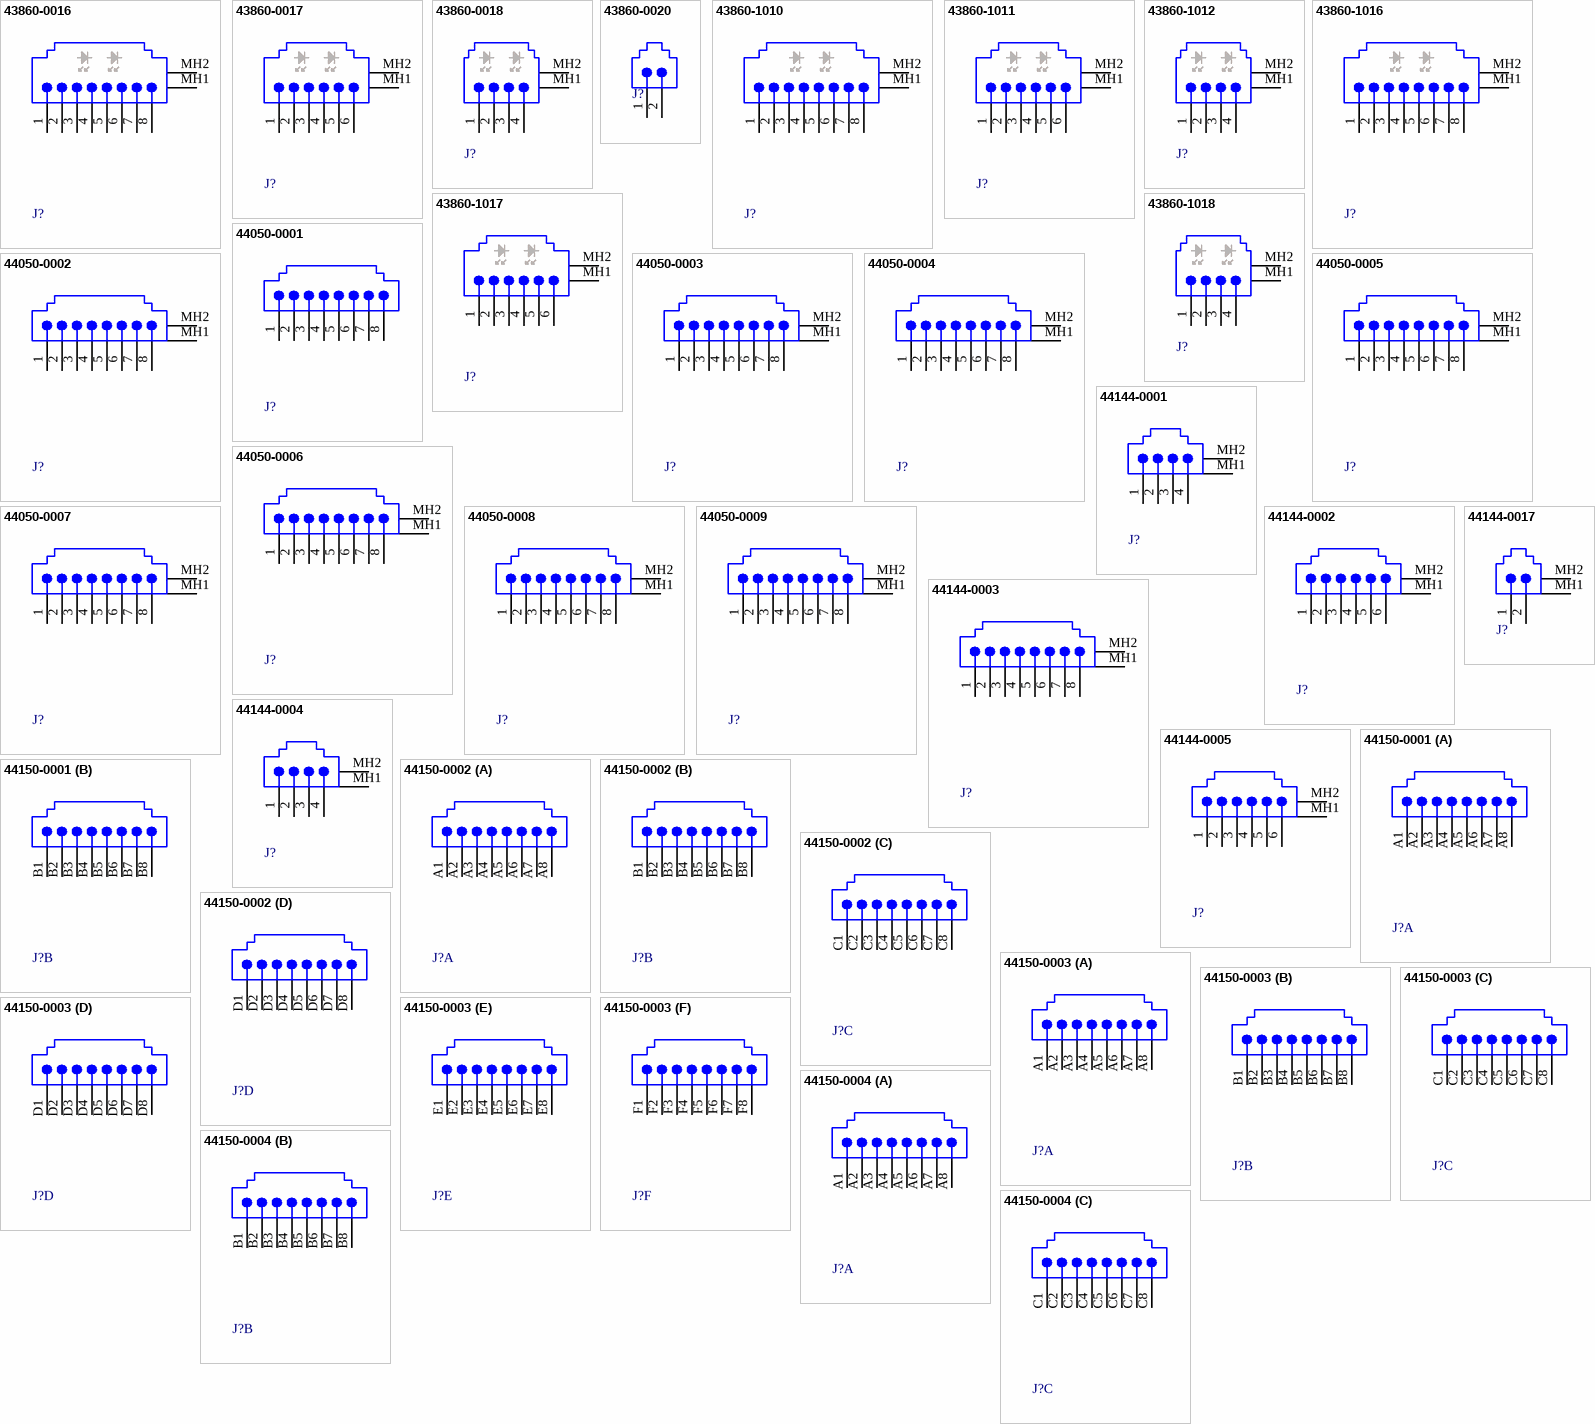
[diagram p7: symbols 43860-0016 to 44150-0004]

## 43860-0016
designator J?
Right Angle, Low Profile, with offset Panel Grounding Tabs, Inverted Shielded Version Modular Jack with Lightpipes; ManufacturerRecommends: LED Package type 0805 or 0603; Ports: 1; Positions/Loaded: Port1 - 8/8; PerformanceCategory: 3; PCB_Mounting: Thru-Hole; PCB_Layout: Shows Position of Manufacturer's Recommended SMT LED, Package Type 0805 shown on Mechanical Layer 1.; DrillSize: Nominal, Rounded to nearest 0.05mm; PCB_Layout: Complies with Manufacturer's Recommendation.; Published: 25-Jun-2002; DatasheetDocument: 17-Dec-2001; PackageDocument: 17-Dec-2001; PackageReference: 43860-0016; Publisher: Altium Limited; ComponentLink1Description: Manufacturer Link; ComponentLink1URL: http://www.molex.com/; ComponentLink2Description: Datasheet; ComponentLink2URL: http://www.molex.com/cmc_upload/common_files/1222003_mx43860b.pdf
footprint 43860-0016 (Connector; PCB Jack, Thru-Hole; 1-Port, 8 Positions, 8 Loaded; Shielded with Lightpipes; Right Angle)
signal-integrity model Modular Jack
pins: 1, 2, 3, 4, 5, 6, 7, 8, MH1 Shield, MH2 Shield